# Altium schematic symbol library 2P terminal.SchLib: 2 symbols
Pins are listed as number, name and electrical type; pins without a type are passive.

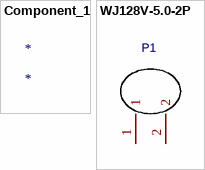
[diagram p0: symbols Component_1 to WJ128V-5.0-2P]

## Component_1
designator *

## WJ128V-5.0-2P
designator P1  (value not drawn)
1x2P 20A -40℃~+105℃ 250V Green 12~22 Direct Insert 5mm 2.5 1 2 Plugin,P=5mm Screw Terminal Blocks ROHS; Manufacturer: KANGNEX(康奈克斯电气); Supplier: LCSC; Manufacturer Part: WJ128V-5.0-2P; Supplier Part: C8269; JLCPCB Part Class: Extended Part; spicePre: P; spiceSymbolName: WJ128V-5.0-2P
footprint CONN-TH_2P-P5.00_WJ128V-5.0-2P
pins: 1, 2